# EAGLE library part USB2-MICRO (library LoRa Gateway)
10104110-0001LF - USB-Steckverbinder, Micro-USB Typ B, USB 2.0, Buchse, 5 -polig, Oberflächenmontage, Rechtwinklig
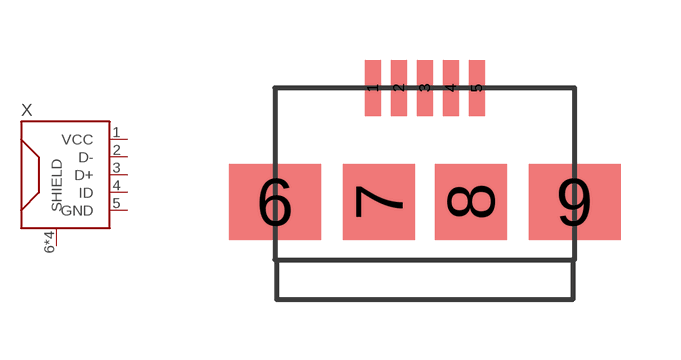
[diagram p8: symbol with the pads of USB-2-MICRO; footprint USB-2-MICRO]

Designator prefix X

## USB2-MICRO  [USB-2-MICRO]
1  VCC
2  D-
3  D+
4  ID
5  GND  pwr
6  SHIELD
7  SHIELD
8  SHIELD
9  SHIELD

## Footprint USB-2-MICRO (pad centres in mm)
smd 0.4 x 1.4: 1 -1.3,4.3; 2 -0.65,4.3; 3 0,4.3; 4 0.65,4.3; 5 1.3,4.3
smd 2.3 x 1.9: 6 -3.75,1.45; 9 3.75,1.45
smd 1.8 x 1.9: 7 -1.15,1.45; 8 1.15,1.45